# Altium schematic symbol library 4.5   - 接插件-脚距2.54.SchLib: 44 symbols
Pins are listed as number, name and electrical type; pins without a type are passive.

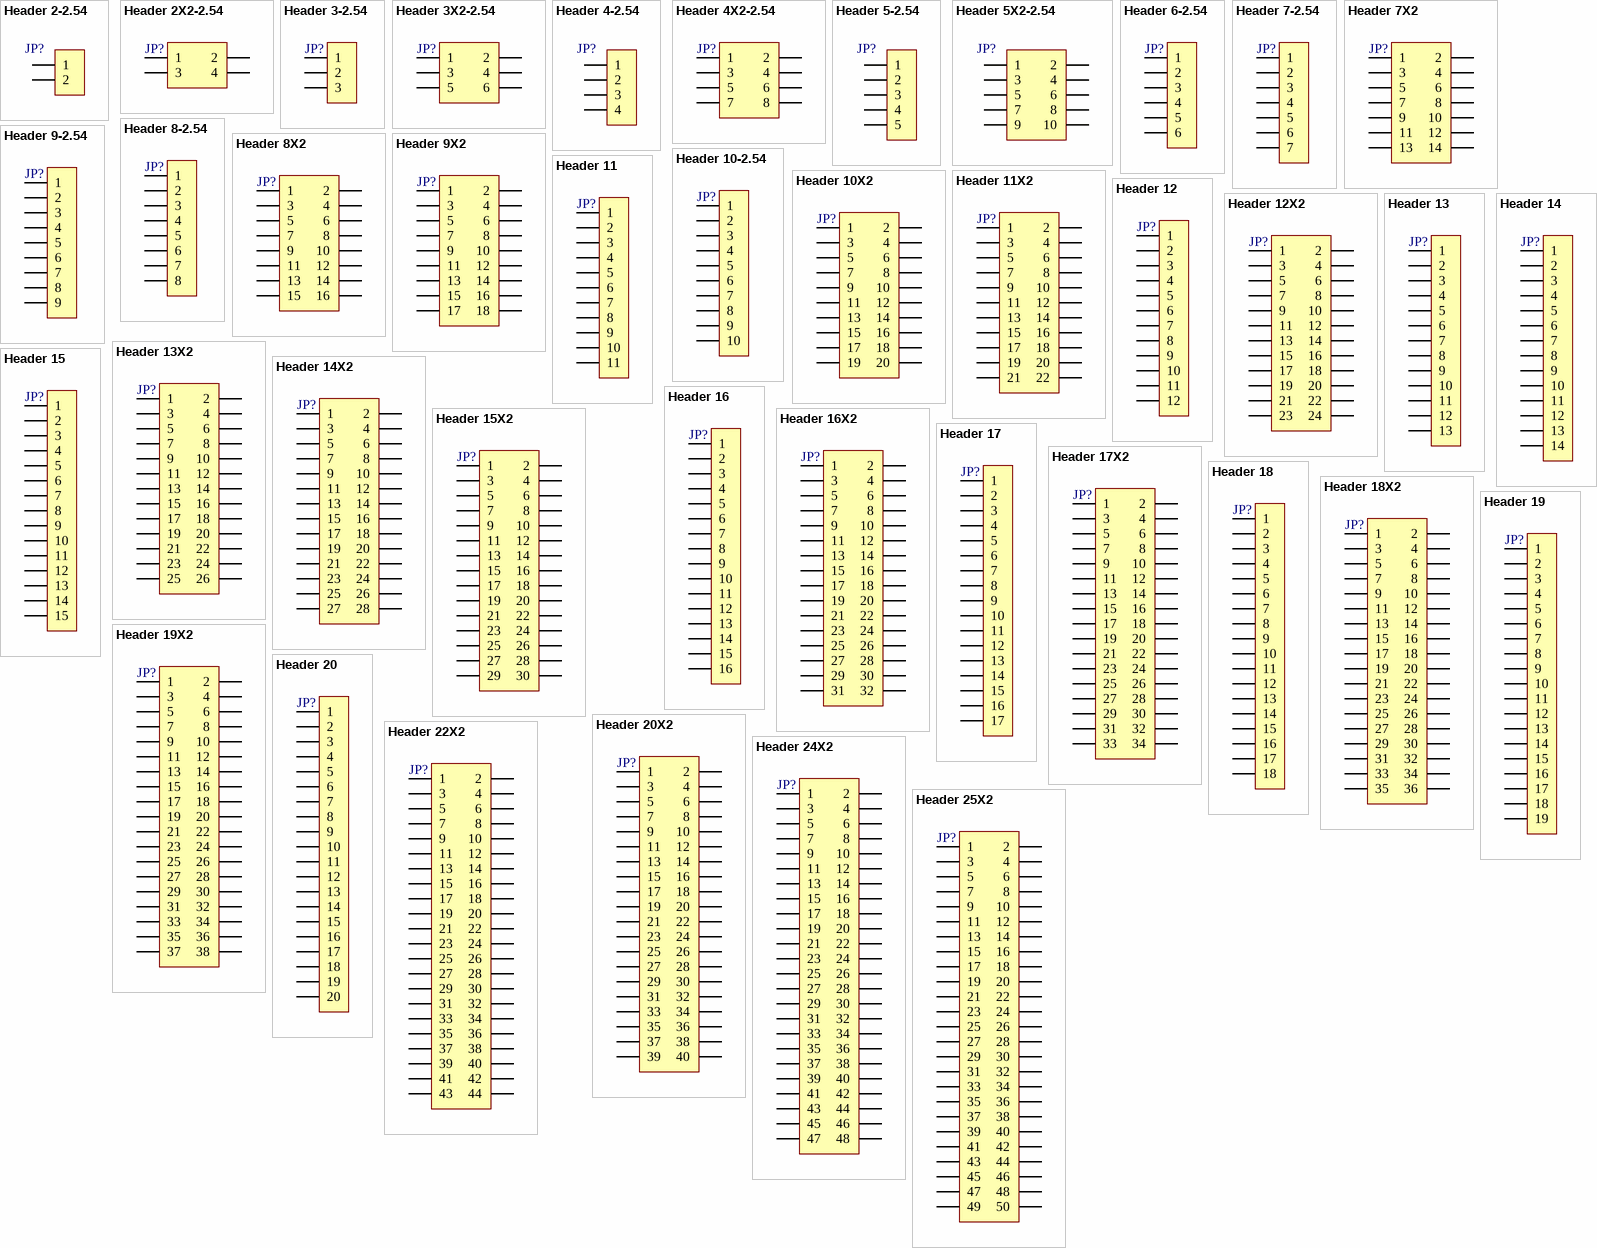
[diagram p0: symbols Header 2-2.54 to Header 25X2]

## Header 2-2.54
designator JP?, comment HDR-1X2  (value not drawn)
2P接插件; 版权归属: 源创客; BOM名称: 2P接插件; 学习资源: www.ooocke.com
footprint XH2.54-WI-2P (接插件，2P)
footprint XH2.54-LI-2P (接插件，2P)
footprint HDR2.54-LI-2P (排针，2脚)
footprint HDR2.54-M-LI-2P (排母，2脚)
footprint HDR2.54-WI-2P (弯脚排针，2脚)
footprint HDR2.54-WS-2P (2P卧式贴片排针2.54)
footprint HDR2.54-Y-LI-2P (圆孔排母，2脚)
footprint HDR2.54-M-WS-2P (2P卧式贴片排母2.54)
footprint KF2510-LI-2P (接插件/2A)
footprint XH2.54-WS-2P (长：10mm，宽：8mm，高：6.1mm)
footprint XH2.54-LS-2P (长：10mm，宽：6mm，高：8.3mm)
footprint KF2EDGK-2.54-LI-2P (长：6.93mm，宽：8.1mm，高：10.1mm)
footprint KF2EDGK-2.54-WI-2P (长：6.93mm，宽：10.1mm，高：8.1mm)
pins: 1, 2

## Header 2X2-2.54
designator JP?, comment Header2X2  (value not drawn)
2*2P接插件; 版权归属: 源创客; BOM名称: 2*2P接插件; 学习资源: www.ooocke.com
footprint HDR2.54-LI-2x2P (双排排针，2x2脚)
footprint HDR2.54-M-LS-2x2P (脚距：2.54mm，贴片双排母)
footprint HDR2.54-WI-2x2P (双排弯脚排针，2x2脚)
pins: 1, 2, 3, 4

## Header 3-2.54
designator JP?, comment HDR-1X3  (value not drawn)
3P接插件; 版权归属: 源创客; BOM名称: 3P接插件; 学习资源: www.ooocke.com
footprint XH2.54-WI-3P (接插件，3P)
footprint XH2.54-LI-3P (接插件，3P)
footprint HDR2.54-LI-3P (排针，3脚)
footprint HDR2.54-M-LI-3P (排母，3脚)
footprint HDR2.54-WI-3P (弯脚排针，3脚)
footprint HDR2.54-WS-3P (3P卧式贴片排针2.54)
footprint HDR2.54-Y-LI-3P (圆孔排母，3脚)
footprint HDR2.54-M-WS-3P (3P卧式贴片排母2.54)
footprint KF2510-LI-3P (接插件/2A)
footprint XH2.54-WS-3P (长：12.5mm，宽：8mm，高：6.1mm)
footprint XH2.54-LS-3P (长：12.5mm，宽：6mm，高：8.3mm)
footprint KF2EDGK-2.54-LI-3P (长：9.52mm，宽：8.1mm，高：10.1mm)
footprint KF2EDGK-2.54-WI-3P (长：9.52mm，宽：10.1mm，高：8.1mm)
footprint KF/DG250-2.54-3P
pins: 1, 2, 3

## Header 3X2-2.54
designator JP?, comment Header3X2  (value not drawn)
3*2P接插件; 版权归属: 源创客; BOM名称: 3*2P接插件; 学习资源: www.ooocke.com
footprint IDC2.54-LI-2x3P (6P简易牛角座)
footprint HDR2.54-LI-2x3P (双排排针，3x2脚)
footprint HDR2.54-M-LS-2x3P (脚距：2.54mm，贴片双排母)
footprint HDR2.54-WI-2x3P (双排弯脚排针，3x2脚)
pins: 1, 2, 3, 4, 5, 6

## Header 4-2.54
designator JP?, comment HDR-1X4  (value not drawn)
4P接插件; 版权归属: 源创客; BOM名称: 4P接插件; 学习资源: www.ooocke.com
footprint XH2.54-WI-4P (接插件，4P)
footprint XH2.54-LI-4P (接插件，4P)
footprint HDR2.54-LI-4P (排针，4脚)
footprint HDR2.54-M-LI-4P (排母，4脚)
footprint HDR2.54-WI-4P (弯脚排针，4脚)
footprint HDR2.54-WS-4P (4P卧式贴片排针2.54)
footprint HDR2.54-Y-LI-4P (圆孔排母，4脚)
footprint HDR2.54-M-WS-4P (4P卧式贴片排母2.54)
footprint KF2510-LI-4P (接插件/2A)
footprint XH2.54-WS-4P (长：15mm，宽：8mm，高：6.1mm)
footprint XH2.54-LS-4P (长：15mm，宽：6mm，高：8.3mm)
footprint KF2EDGK-2.54-LI-4P (长：12.06mm，宽：8.1mm，高：10.1mm)
footprint KF2EDGK-2.54-WI-4P (长：12.06mm，宽：10.1mm，高：8.1mm)
footprint KF/DG250-2.54-4P
pins: 1, 2, 3, 4

## Header 4X2-2.54
designator JP?, comment Header 4X2  (value not drawn)
4*2P接插件; 版权归属: 源创客; BOM名称: 4*2P接插件; 学习资源: www.ooocke.com
footprint IDC2.54-LI-2x4P (8P简易牛角座)
footprint HDR2.54-LI-2x4P (双排排针，4x2脚)
footprint HDR2.54-M-LS-2x4P (脚距：2.54mm，贴片双排母)
footprint HDR2.54-WI-2x4P (双排弯脚排针，4x2脚)
pins: 1, 2, 3, 4, 5, 6, 7, 8

## Header 5-2.54
designator JP?, comment HDR-1X5  (value not drawn)
5P接插件; 版权归属: 源创客; BOM名称: 5P接插件; 学习资源: www.ooocke.com
footprint XH2.54-WI-5P (接插件，5P)
footprint XH2.54-LI-5P (接插件，5P)
footprint HDR2.54-LI-5P (排针，5脚)
footprint HDR2.54-M-LI-5P (排母，5脚)
footprint HDR2.54-WI-5P (弯脚排针，5脚)
footprint HDR2.54-WS-5P (5P卧式贴片排针2.54)
footprint HDR2.54-Y-LI-5P (圆孔排母，5脚)
footprint HDR2.54-M-WS-5P (5P卧式贴片排母2.54)
footprint KF2510-LI-5P (接插件/2A)
footprint XH2.54-WS-5P (长：17.5mm，宽：8mm，高：6.1mm)
footprint XH2.54-LS-5P (长：17.5mm，宽：6mm，高：8.3mm)
footprint KF2EDGK-2.54-LI-5P (长：14.6mm，宽：8.1mm，高：10.1mm)
footprint KF2EDGK-2.54-WI-5P (长：14.6mm，宽：10.1mm，高：8.1mm)
footprint KF/DG250-2.54-5P
pins: 1, 2, 3, 4, 5

## Header 5X2-2.54
designator JP?, comment Header 5X2  (value not drawn)
5*2P接插件; 版权归属: 源创客; BOM名称: 5*2P接插件; 学习资源: www.ooocke.com
footprint IDC2.54-LI-2x5P (10P简易牛角座)
footprint HDR2.54-LI-2x5P (双排排针，5x2脚)
footprint HDR2.54-M-LS-2x5P (脚距：2.54mm，贴片双排母)
footprint HDR2.54-WI-2x5P (双排弯脚排针，5x2脚)
pins: 1, 2, 3, 4, 5, 6, 7, 8, 9, 10

## Header 6-2.54
designator JP?, comment HDR-1X6  (value not drawn)
6P接插件; 版权归属: 源创客; BOM名称: 6P接插件; 学习资源: www.ooocke.com
footprint XH2.54-WI-6P (接插件，6P)
footprint XH2.54-LI-6P (接插件，6P)
footprint HDR2.54-LI-6P (排针，6脚)
footprint HDR2.54-M-LI-6P (排母，6脚)
footprint HDR2.54-WI-6P (弯脚排针，6脚)
footprint HDR2.54-WS-6P (6P卧式贴片排针2.54)
footprint HDR2.54-Y-LI-6P (圆孔排母，6脚)
footprint HDR2.54-M-WS-6P (6P卧式贴片排母2.54)
footprint KF2510-LI-6P (接插件/2A)
footprint XH2.54-WS-6P (长：20mm，宽：8mm，高：6.1mm)
footprint XH2.54-LS-6P (长：20mm，宽：6mm，高：8.3mm)
footprint KF2EDGK-2.54-LI-6P (长：17.1mm，宽：8.1mm，高：10.1mm)
footprint KF2EDGK-2.54-WI-6P (长：17.1mm，宽：10.1mm，高：8.1mm)
footprint KF/DG250-2.54-6P
pins: 1, 2, 3, 4, 5, 6

## Header 7-2.54
designator JP?, comment HDR-1X7  (value not drawn)
7P接插件; 版权归属: 源创客; BOM名称: 7P接插件; 学习资源: www.ooocke.com
footprint XH2.54-WI-7P (接插件，7P)
footprint XH2.54-LI-7P (接插件，7P)
footprint HDR2.54-LI-7P (排针，8脚)
footprint HDR2.54-M-LI-7P (排母，7脚)
footprint HDR2.54-WI-7P (弯脚排针，7脚)
footprint HDR2.54-WS-7P (7P卧式贴片排针2.54)
footprint HDR2.54-Y-LI-7P (圆孔排母，7脚)
footprint HDR2.54-M-WS-7P (7P卧式贴片排母2.54)
footprint KF2510-LI-7P (接插件/2A)
footprint XH2.54-WS-7P (长：22.5mm，宽：8mm，高：6.1mm)
footprint XH2.54-LS-7P (长：22.5mm，宽：6mm，高：8.3mm)
footprint KF2EDGK-2.54-LI-7P (长：22.22mm，宽：8.1mm，高：10.1mm)
footprint KF2EDGK-2.54-WI-7P (长：22.22mm，宽：10.1mm，高：8.1mm)
pins: 1, 2, 3, 4, 5, 6, 7

## Header 7X2
designator JP?, comment Header 2X7  (value not drawn)
7*2P接插件; 版权归属: 源创客; BOM名称: 7*2P接插件; 学习资源: www.ooocke.com
footprint IDC2.54-LI-2x7P (14P简易牛角座)
footprint HDR2.54-LI-2x7P (双排排针，7x2脚)
footprint HDR2.54-M-LS-2x7P (脚距：2.54mm，贴片双排母)
footprint HDR2.54-WI-2x7P (双排弯脚排针，7x2脚)
pins: 1, 2, 3, 4, 5, 6, 7, 8, 9, 10, 11, 12, 13, 14

## Header 8-2.54
designator JP?, comment HDR-1X8  (value not drawn)
8P接插件; 版权归属: 源创客; BOM名称: 8P接插件; 学习资源: www.ooocke.com
footprint XH2.54-WI-8P (接插件，8P)
footprint XH2.54-LI-8P (接插件，8P)
footprint HDR2.54-LI-8P (排针，8脚)
footprint HDR2.54-M-LI-8P (排母，8脚)
footprint HDR2.54-WI-8P (弯脚排针，8脚)
footprint HDR2.54-WS-8P (8P卧式贴片排针2.54)
footprint HDR2.54-Y-LI-8P (圆孔排母，8脚)
footprint HDR2.54-M-WS-8P (8P卧式贴片排母2.54)
footprint KF2510-LI-8P (接插件/2A)
footprint XH2.54-WS-8P (长：25mm，宽：8mm，高：6.1mm)
footprint XH2.54-LS-8P (长：25mm，宽：6mm，高：8.3mm)
footprint KF2EDGK-2.54-LI-8P (长：22.22mm，宽：8.1mm，高：10.1mm)
footprint KF2EDGK-2.54-WI-8P (长：22.22mm，宽：10.1mm，高：8.1mm)
pins: 1, 2, 3, 4, 5, 6, 7, 8

## Header 8X2
designator JP?  (value not drawn)
8*2P接插件; 版权归属: 源创客; BOM名称: 8*2P接插件; 学习资源: www.ooocke.com
footprint IDC2.54-LI-2x8P (16P简易牛角座)
footprint HDR2.54-LI-2x8P (双排排针，8x2脚)
footprint HDR2.54-M-LS-2x8P (脚距：2.54mm，贴片双排母)
footprint HDR2.54-WI-2x8P (双排弯脚排针，8x2脚)
pins: 1, 2, 3, 4, 5, 6, 7, 8, 9, 10, 11, 12, 13, 14, 15, 16

## Header 9-2.54
designator JP?, comment HDR-1X9  (value not drawn)
9P接插件; 版权归属: 源创客; BOM名称: 9P接插件; 学习资源: www.ooocke.com
footprint XH2.54-WI-9P (接插件，9P)
footprint XH2.54-LI-9P (接插件，9P)
footprint HDR2.54-LI-9P (排针，9脚)
footprint HDR2.54-M-LI-9P (排母，9脚)
footprint HDR2.54-WI-9P (弯脚排针，9脚)
footprint HDR2.54-WS-9P (9P卧式贴片排针2.54)
footprint HDR2.54-Y-LI-9P (圆孔排母，9脚)
footprint HDR2.54-M-WS-9P (9P卧式贴片排母2.54)
footprint KF2510-LI-9P (接插件/2A)
footprint XH2.54-WS-9P (长：27.5mm，宽：8mm，高：6.1mm)
footprint XH2.54-LS-9P (长：27.5mm，宽：6mm，高：8.3mm)
footprint KF2EDGK-2.54-LI-9P (长：27.76mm，宽：8.1mm，高：10.1mm)
footprint KF2EDGK-2.54-WI-9P (长：27.76mm，宽：10.1mm，高：8.1mm)
pins: 1, 2, 3, 4, 5, 6, 7, 8, 9

## Header 9X2
designator JP?  (value not drawn)
9*2P接插件; 版权归属: 源创客; BOM名称: 9*2P接插件; 学习资源: www.ooocke.com
footprint HDR2.54-LI-2x9P (双排排针，9x2脚)
footprint HDR2.54-M-LS-2x9P (脚距：2.54mm，贴片双排母)
footprint HDR2.54-WI-2x9P (双排弯脚排针，9x2脚)
pins: 1, 2, 3, 4, 5, 6, 7, 8, 9, 10, 11, 12, 13, 14, 15, 16, 17, 18

## Header 10-2.54
designator JP?, comment HDR-1X10  (value not drawn)
10P接插件; 版权归属: 源创客; BOM名称: 10P接插件; 学习资源: www.ooocke.com
footprint XH2.54-WI-10P (接插件，10P)
footprint XH2.54-LI-10P (接插件，10P)
footprint HDR2.54-LI-10P (排针，10脚)
footprint HDR2.54-M-LI-10P (排母，10脚)
footprint HDR2.54-WI-10P (弯脚排针，10脚)
footprint HDR2.54-WS-10P (10P卧式贴片排针2.54)
footprint HDR2.54-Y-LI-10P (圆孔排母，10脚)
footprint HDR2.54-M-WS-10P (10P卧式贴片排母2.54)
footprint KF2510-LI-10P (接插件/2A)
footprint XH2.54-WS-10P (长：30mm，宽：8mm，高：6.1mm)
footprint XH2.54-LS-10P (长：30mm，宽：6mm，高：8.3mm)
footprint KF2EDGK-2.54-LI-10P (长：27.3mm，宽：8.1mm，高：10.1mm)
footprint KF2EDGK-2.54-WI-10P (长：27.3mm，宽：10.1mm，高：8.1mm)
pins: 1, 2, 3, 4, 5, 6, 7, 8, 9, 10

## Header 10X2
designator JP?, comment Header 2X10  (value not drawn)
10*2P接插件; 版权归属: 源创客; BOM名称: 10*2P接插件; 学习资源: www.ooocke.com
footprint IDC2.54-LI-2x10P (20P简易牛角座)
footprint HDR2.54-LI-2x10P (双排排针，10x2脚)
footprint HDR2.54-M-LS-2x10P (脚距：2.54mm，贴片双排母)
footprint HDR2.54-WI-2x10P
pins: 1, 2, 3, 4, 5, 6, 7, 8, 9, 10, 11, 12, 13, 14, 15, 16, 17, 18, 19, 20

## Header 11
designator JP?, comment HDR-1X11  (value not drawn)
11P接插件; 版权归属: 源创客; BOM名称: 11P接插件; 学习资源: www.ooocke.com
footprint XH2.54-WI-11P (接插件，11P)
footprint XH2.54-LI-11P (接插件，11P)
footprint HDR2.54-LI-11P (排针)
footprint HDR2.54-M-LI-11P (排母，11脚)
footprint HDR2.54-WS-11P (11P卧式贴片排针2.54)
footprint HDR2.54-Y-LI-11P (圆孔排母，11脚)
footprint HDR2.54-M-WS-11P (11P卧式贴片排母2.54)
footprint KF2510-LI-11P (接插件/2A)
footprint XH2.54-WS-11P (长：32.5mm，宽：8mm，高：6.1mm)
footprint XH2.54-LS-11P (长：32.5mm，宽：6mm，高：8.3mm)
footprint KF2EDGK-2.54-LI-11P (长：29.84mm，宽：8.1mm，高：10.1mm)
footprint KF2EDGK-2.54-WI-11P (长：29.84mm，宽：10.1mm，高：8.1mm)
pins: 1, 2, 3, 4, 5, 6, 7, 8, 9, 10, 11

## Header 11X2
designator JP?, comment Header 2X11  (value not drawn)
11*2P接插件; 版权归属: 源创客; BOM名称: 11*2P接插件; 学习资源: www.ooocke.com
footprint HDR2.54-LI-2x11P (双排排针，11x2脚)
footprint HDR2.54-M-LS-2x11P (脚距：2.54mm，贴片双排母)
footprint HDR2.54-WI-2x11P (双排弯脚排针，11x2脚)
pins: 1, 2, 3, 4, 5, 6, 7, 8, 9, 10, 11, 12, 13, 14, 15, 16, 17, 18, 19, 20, 21, 22

## Header 12
designator JP?, comment HDR-1X12  (value not drawn)
12P接插件; 版权归属: 源创客; BOM名称: 12P接插件; 学习资源: www.ooocke.com
footprint XH2.54-WI-12P (接插件，12P)
footprint XH2.54-LI-12P (接插件，12P)
footprint HDR2.54-LI-12P (排针，13脚)
footprint HDR2.54-M-LI-12P (排母，12脚)
footprint HDR2.54-WI-12P (弯脚排针，12脚)
footprint HDR2.54-WS-12P (12P卧式贴片排针2.54)
footprint HDR2.54-Y-LI-12P (圆孔排母，12脚)
footprint HDR2.54-M-WS-12P (12P卧式贴片排母2.54)
footprint KF2510-LI-12P (接插件/2A)
footprint XH2.54-WS-12P (长：35mm，宽：8mm，高：6.1mm)
footprint XH2.54-LS-12P (长：35mm，宽：6mm，高：8.3mm)
footprint KF2EDGK-2.54-LI-12P (长：32.38mm，宽：8.1mm，高：10.1mm)
footprint KF2EDGK-2.54-WI-12P (长：32.38mm，宽：10.1mm，高：8.1mm)
pins: 1, 2, 3, 4, 5, 6, 7, 8, 9, 10, 11, 12

## Header 12X2
designator JP?, comment Header 2X11  (value not drawn)
12*2P接插件; 版权归属: 源创客; BOM名称: 12*2P接插件; 学习资源: www.ooocke.com
footprint IDC2.54-LI-2x12P (24P简易牛角座)
footprint HDR2.54-LI-2x12P (双排排针，12x2脚)
footprint HDR2.54-M-LS-2x12P (脚距：2.54mm，贴片双排母)
footprint HDR2.54-WI-2x12P (双排弯脚排针，12x2脚)
pins: 1, 2, 3, 4, 5, 6, 7, 8, 9, 10, 11, 12, 13, 14, 15, 16, 17, 18, 19, 20, 21, 22, 23, 24

## Header 13
designator JP?, comment HDR-1X13  (value not drawn)
13P接插件; 版权归属: 源创客; BOM名称: 13P接插件; 学习资源: www.ooocke.com
footprint HDR2.54-LI-13P (排针，13脚)
footprint HDR2.54-M-LI-13P (排母，13脚)
footprint HDR2.54-WI-13P (弯脚排针，13脚)
footprint HDR2.54-WS-13P (13P卧式贴片排针2.54)
footprint HDR2.54-Y-LI-13P (圆孔排母，13脚)
footprint HDR2.54-M-WS-13P (13P卧式贴片排母2.54)
footprint KF2510-LI-13P (接插件/2A)
footprint XH2.54-LS-13P (长：37.5mm，宽：6mm，高：8.3mm)
footprint XH2.54-WS-13P (长：37.5mm，宽：8mm，高：6.1mm)
footprint XH2.54-LI-13P (接插件，13P)
footprint XH2.54-WI-13P (接插件，13P)
footprint KF2EDGK-2.54-LI-13P (长：34.92mm，宽：8.1mm，高：10.1mm)
footprint KF2EDGK-2.54-WI-13P (长：34.92mm，宽：10.1mm，高：8.1mm)
pins: 1, 2, 3, 4, 5, 6, 7, 8, 9, 10, 11, 12, 13

## Header 13X2
designator JP?, comment Header 2X11  (value not drawn)
13*2P接插件; 版权归属: 源创客; BOM名称: 13*2P接插件; 学习资源: www.ooocke.com
footprint IDC2.54-LI-2x13P (26P简易牛角座)
footprint HDR2.54-LI-2x13P (双排排针，13x2脚)
footprint HDR2.54-M-LS-2x13P (脚距：2.54mm，贴片双排母)
footprint HDR2.54-WI-2x13P (双排弯脚排针，13x2脚)
pins: 1, 2, 3, 4, 5, 6, 7, 8, 9, 10, 11, 12, 13, 14, 15, 16, 17, 18, 19, 20, 21, 22, 23, 24, 25, 26

## Header 14
designator JP?, comment HDR-1X14  (value not drawn)
14P接插件; 版权归属: 源创客; BOM名称: 14P接插件; 学习资源: www.ooocke.com
footprint HDR2.54-LI-14P (排针，14脚)
footprint HDR2.54-M-LI-14P (排母，14脚)
footprint HDR2.54-WI-14P (弯脚排针，14脚)
footprint HDR2.54-WS-14P (14P卧式贴片排针2.54)
footprint HDR2.54-Y-LI-14P (圆孔排母，14脚)
footprint HDR2.54-M-WS-14P (14P卧式贴片排母2.54)
footprint KF2510-LI-14P (接插件/2A)
footprint XH2.54-LS-14P (长：40mm，宽：6mm，高：8.3mm)
footprint XH2.54-WS-14P (长：40mm，宽：8mm，高：6.1mm)
footprint XH2.54-LI-14P (接插件，14P)
footprint XH2.54-WI-14P (接插件，14P)
footprint KF2EDGK-2.54-LI-14P (长：37.46mm，宽：8.1mm，高：10.1mm)
footprint KF2EDGK-2.54-WI-14P (长：37.46mm，宽：10.1mm，高：8.1mm)
pins: 1, 2, 3, 4, 5, 6, 7, 8, 9, 10, 11, 12, 13, 14

## Header 14X2
designator JP?, comment Header 2X11  (value not drawn)
14*2P接插件; 版权归属: 源创客; BOM名称: 14*2P接插件; 学习资源: www.ooocke.com
footprint HDR2.54-LI-2x14P (双排排针，14x2脚)
footprint HDR2.54-M-LS-2x14P (脚距：2.54mm，贴片双排母)
footprint HDR2.54-WI-2x14P (双排弯脚排针，14x2脚)
pins: 1, 2, 3, 4, 5, 6, 7, 8, 9, 10, 11, 12, 13, 14, 15, 16, 17, 18, 19, 20, 21, 22, 23, 24, 25, 26, 27, 28

## Header 15
designator JP?, comment HDR-1X15  (value not drawn)
15P接插件; 版权归属: 源创客; BOM名称: 15P接插件; 学习资源: www.ooocke.com
footprint HDR2.54-LI-15P (排针，15脚)
footprint HDR2.54-M-LI-15P (排母，15脚)
footprint HDR2.54-WI-15P (弯脚排针，15脚)
footprint HDR2.54-WS-15P (15P卧式贴片排针2.54)
footprint HDR2.54-Y-LI-15P (圆孔排母，15脚)
footprint HDR2.54-M-WS-15P (15P卧式贴片排母2.54)
footprint KF2510-LI-15P (接插件/2A)
footprint XH2.54-WS-15P (长：42.5mm，宽：8mm，高：6.1mm)
footprint XH2.54-LS-15P (长：42.5mm，宽：6mm，高：8.3mm)
footprint XH2.54-LI-15P (接插件，15P)
footprint XH2.54-WI-15P (接插件，15P)
footprint KF2EDGK-2.54-LI-15P (长：40mm，宽：8.1mm，高：10.1mm)
footprint KF2EDGK-2.54-WI-15P (长：40mm，宽：10.1mm，高：8.1mm)
pins: 1, 2, 3, 4, 5, 6, 7, 8, 9, 10, 11, 12, 13, 14, 15

## Header 15X2
designator JP?, comment Header 2X11  (value not drawn)
15*2P接插件; 版权归属: 源创客; BOM名称: 15*2P接插件; 学习资源: www.ooocke.com
footprint IDC2.54-LI-2x15P (30P简易牛角座)
footprint HDR2.54-LI-2x15P (双排排针，15x2脚)
footprint HDR2.54-M-LS-2x15P (脚距：2.54mm，贴片双排母)
footprint HDR2.54-WI-2x15P (双排弯脚排针，15x2脚)
pins: 1, 2, 3, 4, 5, 6, 7, 8, 9, 10, 11, 12, 13, 14, 15, 16, 17, 18, 19, 20, 21, 22, 23, 24, 25, 26, 27, 28, 29, 30

## Header 16
designator JP?, comment HDR-1X16  (value not drawn)
16P接插件; 版权归属: 源创客; BOM名称: 16P接插件; 学习资源: www.ooocke.com
footprint HDR2.54-LI-16P (排针，16脚)
footprint HDR2.54-M-LI-16P (排母，16脚)
footprint HDR2.54-WI-16P (弯脚排针，16脚)
footprint HDR2.54-WS-16P (16P卧式贴片排针2.54)
footprint HDR2.54-Y-LI-16P (圆孔排母，16脚)
footprint HDR2.54-M-WS-16P (16P卧式贴片排母2.54)
footprint XH2.54-LS-16P (长：45mm，宽：6mm，高：8.3mm)
footprint XH2.54-WS-16P (长：45mm，宽：8mm，高：6.1mm)
footprint XH2.54-LI-16P (接插件，16P)
footprint XH2.54-WI-16P (接插件，16P)
footprint KF2EDGK-2.54-LI-16P (长：42.54mm，宽：8.1mm，高：10.1mm)
footprint KF2EDGK-2.54-WI-16P (长：42.54mm，宽：10.1mm，高：8.1mm)
pins: 1, 2, 3, 4, 5, 6, 7, 8, 9, 10, 11, 12, 13, 14, 15, 16

## Header 16X2
designator JP?, comment Header 2X11  (value not drawn)
16*2P接插件; 版权归属: 源创客; BOM名称: 16*2P接插件; 学习资源: www.ooocke.com
footprint HDR2.54-LI-2x16P (双排排针，16x2脚)
footprint HDR2.54-M-LS-2x16P (脚距：2.54mm，贴片双排母)
footprint HDR2.54-WI-2x16P (双排弯脚排针，16x2脚)
pins: 1, 2, 3, 4, 5, 6, 7, 8, 9, 10, 11, 12, 13, 14, 15, 16, 17, 18, 19, 20, 21, 22, 23, 24, 25, 26, 27, 28, 29, 30, 31, 32

## Header 17
designator JP?, comment HDR-1X17  (value not drawn)
17P接插件; 版权归属: 源创客; BOM名称: 17P接插件; 学习资源: www.ooocke.com
footprint HDR2.54-LI-17P (排针，17脚)
footprint HDR2.54-M-LI-17P (排母，17脚)
footprint HDR2.54-WI-17P (弯脚排针，17脚)
footprint HDR2.54-WS-17P (17P卧式贴片排针2.54)
footprint HDR2.54-Y-LI-17P (圆孔排母，17脚)
footprint HDR2.54-M-WS-17P (17P卧式贴片排母2.54)
footprint XH2.54-LI-17P (接插件，17P)
footprint XH2.54-WI-17P (接插件，17P)
pins: 1, 2, 3, 4, 5, 6, 7, 8, 9, 10, 11, 12, 13, 14, 15, 16, 17

## Header 17X2
designator JP?, comment Header 2X11  (value not drawn)
17*2P接插件; 版权归属: 源创客; BOM名称: 17*2P接插件; 学习资源: www.ooocke.com
footprint IDC2.54-LI-2x17P (34P简易牛角座)
footprint HDR2.54-LI-2x17P (双排排针，17x2脚)
footprint HDR2.54-M-LS-2x17P (脚距：2.54mm，贴片双排母)
footprint HDR2.54-WI-2x17P (双排弯脚排针，17x2脚)
pins: 1, 2, 3, 4, 5, 6, 7, 8, 9, 10, 11, 12, 13, 14, 15, 16, 17, 18, 19, 20, 21, 22, 23, 24, 25, 26, 27, 28, 29, 30, 31, 32, 33, 34

## Header 18
designator JP?, comment HDR-1X18  (value not drawn)
18P接插件; 版权归属: 源创客; BOM名称: 18P接插件; 学习资源: www.ooocke.com
footprint HDR2.54-LI-18P (排针，18脚)
footprint HDR2.54-M-LI-18P (排母，18脚)
footprint HDR2.54-WI-18P (弯脚排针，18脚)
footprint HDR2.54-WS-18P (18P卧式贴片排针2.54)
footprint HDR2.54-Y-LI-18P (圆孔排母，18脚)
footprint HDR2.54-M-WS-18P (18P卧式贴片排母2.54)
footprint XH2.54-LI-18P (接插件，18P)
footprint XH2.54-WI-18P (接插件，18P)
pins: 1, 2, 3, 4, 5, 6, 7, 8, 9, 10, 11, 12, 13, 14, 15, 16, 17, 18

## Header 18X2
designator JP?, comment Header 2X11  (value not drawn)
18*2P接插件; 版权归属: 源创客; BOM名称: 18*2P接插件; 学习资源: www.ooocke.com
footprint HDR2.54-LI-2x18P (双排排针，18x2脚)
footprint HDR2.54-M-LS-2x18P (脚距：2.54mm，贴片双排母)
footprint HDR2.54-WI-2x18P (双排弯脚排针，18x2脚)
pins: 1, 2, 3, 4, 5, 6, 7, 8, 9, 10, 11, 12, 13, 14, 15, 16, 17, 18, 19, 20, 21, 22, 23, 24, 25, 26, 27, 28, 29, 30, 31, 32, 33, 34, 35, 36

## Header 19
designator JP?, comment HDR-1X19  (value not drawn)
19P接插件; 版权归属: 源创客; BOM名称: 19P接插件; 学习资源: www.ooocke.com
footprint HDR2.54-LI-19P (排针，19脚)
footprint HDR2.54-M-LI-19P (排母，19脚)
footprint HDR2.54-WI-19P (弯脚排针，19脚)
footprint HDR2.54-WS-19P (19P卧式贴片排针2.54)
footprint HDR2.54-Y-LI-19P (圆孔排母，19脚)
footprint HDR2.54-M-WS-19P (19P卧式贴片排母2.54)
pins: 1, 2, 3, 4, 5, 6, 7, 8, 9, 10, 11, 12, 13, 14, 15, 16, 17, 18, 19

## Header 19X2
designator JP?, comment Header 2X11  (value not drawn)
19*2P接插件; 版权归属: 源创客; BOM名称: 19*2P接插件; 学习资源: www.ooocke.com
footprint HDR2.54-LI-2x19P (双排排针，19x2脚)
footprint HDR2.54-M-LS-2x19P (脚距：2.54mm，贴片双排母)
footprint HDR2.54-WI-2x19P (双排弯脚排针，19x2脚)
pins: 1, 2, 3, 4, 5, 6, 7, 8, 9, 10, 11, 12, 13, 14, 15, 16, 17, 18, 19, 20, 21, 22, 23, 24, 25, 26, 27, 28, 29, 30, 31, 32, 33, 34, 35, 36, 37, 38

## Header 20
designator JP?, comment HDR-1X20  (value not drawn)
20P接插件; 版权归属: 源创客; BOM名称: 20P接插件; 学习资源: www.ooocke.com
footprint HDR2.54-LI-20P (排针，20脚)
footprint HDR2.54-M-LI-20P (排母，20脚)
footprint HDR2.54-WI-20P (弯脚排针，20脚)
footprint HDR2.54-WS-20P (20P卧式贴片排针2.54)
footprint HDR2.54-Y-LI-20P (圆孔排母，20脚)
footprint HDR2.54-M-WS-20P (20P卧式贴片排母2.54)
pins: 1, 2, 3, 4, 5, 6, 7, 8, 9, 10, 11, 12, 13, 14, 15, 16, 17, 18, 19, 20

## Header 20X2
designator JP?, comment Header 2X11  (value not drawn)
20*2P接插件; 版权归属: 源创客; BOM名称: 20*2P接插件; 学习资源: www.ooocke.com
footprint IDC2.54-LI-2x20P (40P简易牛角座)
footprint HDR2.54-LI-2x20P (双排排针，20x2脚)
footprint HDR2.54-M-LS-2x20P (脚距：2.54mm，贴片双排母)
footprint HDR2.54-WI-2x20P (双排弯脚排针，20x2脚)
pins: 1, 2, 3, 4, 5, 6, 7, 8, 9, 10, 11, 12, 13, 14, 15, 16, 17, 18, 19, 20, 21, 22, 23, 24, 25, 26, 27, 28, 29, 30, 31, 32, 33, 34, 35, 36, 37, 38, 39, 40

## Header 22X2
designator JP?, comment Header 2X11  (value not drawn)
22*2P接插件; BOM名称: 20*2P接插件; 版权归属: 源创客; 学习资源: www.ooocke.com
footprint IDC2.54-LI-2x22P (44P简易牛角座)
pins: 1, 2, 3, 4, 5, 6, 7, 8, 9, 10, 11, 12, 13, 14, 15, 16, 17, 18, 19, 20, 21, 22, 23, 24, 25, 26, 27, 28, 29, 30, 31, 32, 33, 34, 35, 36, 37, 38, 39, 40, 41, 42, 43, 44

## Header 24X2
designator JP?, comment Header 2X24  (value not drawn)
24*2P接插件; BOM名称: 20*2P接插件; 版权归属: 源创客; 学习资源: www.ooocke.com
footprint IDC2.54-LI-2x24P (48P简易牛角座)
pins: 1, 2, 3, 4, 5, 6, 7, 8, 9, 10, 11, 12, 13, 14, 15, 16, 17, 18, 19, 20, 21, 22, 23, 24, 25, 26, 27, 28, 29, 30, 31, 32, 33, 34, 35, 36, 37, 38, 39, 40, 41, 42, 43, 44, 45, 46, 47, 48

## Header 25X2
designator JP?, comment Header 2X25  (value not drawn)
25*2P接插件; BOM名称: 20*2P接插件; 版权归属: 源创客; 学习资源: www.ooocke.com
footprint IDC2.54-LI-2x25P (50P简易牛角座)
pins: 1, 2, 3, 4, 5, 6, 7, 8, 9, 10, 11, 12, 13, 14, 15, 16, 17, 18, 19, 20, 21, 22, 23, 24, 25, 26, 27, 28, 29, 30, 31, 32, 33, 34, 35, 36, 37, 38, 39, 40, 41, 42, 43, 44, 45, 46, 47, 48, 49, 50

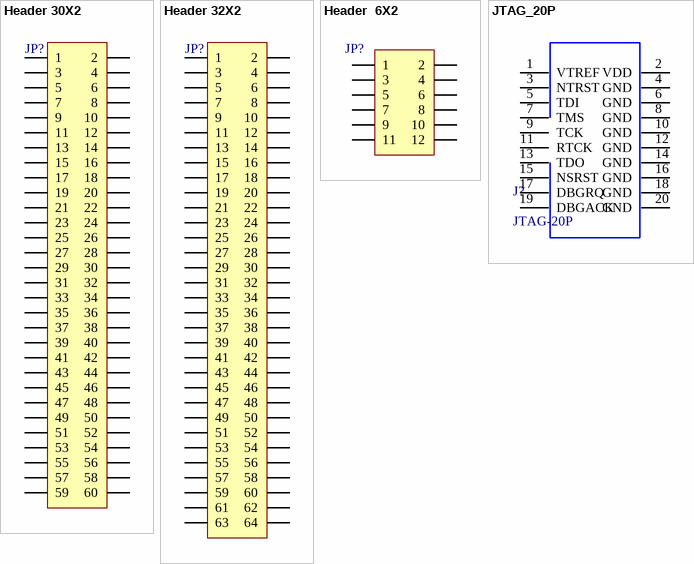
[diagram p1: symbols Header 30X2 to JTAG_20P]

## Header 30X2
designator JP?, comment Header 2X30  (value not drawn)
30*2P接插件; BOM名称: 20*2P接插件; 版权归属: 源创客; 学习资源: www.ooocke.com
footprint IDC2.54-LI-2x30P (60P简易牛角座)
pins: 1, 2, 3, 4, 5, 6, 7, 8, 9, 10, 11, 12, 13, 14, 15, 16, 17, 18, 19, 20, 21, 22, 23, 24, 25, 26, 27, 28, 29, 30, 31, 32, 33, 34, 35, 36, 37, 38, 39, 40, 41, 42, 43, 44, 45, 46, 47, 48, 49, 50, 51, 52, 53, 54, 55, 56, 57, 58, 59, 60

## Header 32X2
designator JP?, comment Header 2X32  (value not drawn)
32*2P接插件; BOM名称: 20*2P接插件; 版权归属: 源创客; 学习资源: www.ooocke.com
footprint IDC2.54-LI-2x32P (64P简易牛角座)
pins: 1, 2, 3, 4, 5, 6, 7, 8, 9, 10, 11, 12, 13, 14, 15, 16, 17, 18, 19, 20, 21, 22, 23, 24, 25, 26, 27, 28, 29, 30, 31, 32, 33, 34, 35, 36, 37, 38, 39, 40, 41, 42, 43, 44, 45, 46, 47, 48, 49, 50, 51, 52, 53, 54, 55, 56, 57, 58, 59, 60, 61, 62, 63, 64

## Header  6X2
designator JP?, comment Header 6X2  (value not drawn)
6*2P接插件; 版权归属: 源创客; BOM名称: 6*2P接插件; 学习资源: www.ooocke.com
footprint IDC2.54-LI-2x6P (12P简易牛角座)
footprint HDR2.54-LI-2x6P (双排排针，6x2脚)
footprint HDR2.54-M-LS-2x6P (脚距：2.54mm，贴片双排母)
footprint HDR2.54-WI-2x6P (双排弯脚排针，6x2脚)
pins: 1, 2, 3, 4, 5, 6, 7, 8, 9, 10, 11, 12

## JTAG_20P
designator J?, comment JTAG-20P
J-LINK下载接口
footprint IDC2.54-LI-2x10P (20P简易牛角座)
pins: 1 VTREF, 2 VDD, 3 NTRST, 4 GND, 5 TDI, 6 GND, 7 TMS, 8 GND, 9 TCK, 10 GND, 11 RTCK, 12 GND, 13 TDO, 14 GND, 15 NSRST, 16 GND, 17 DBGRQ, 18 GND, 19 DBGACK, 20 GND